# Altium schematic symbol library switch-raychem.SCHLIB: 4 symbols
Pins are listed as number, name and electrical type; pins without a type are passive.

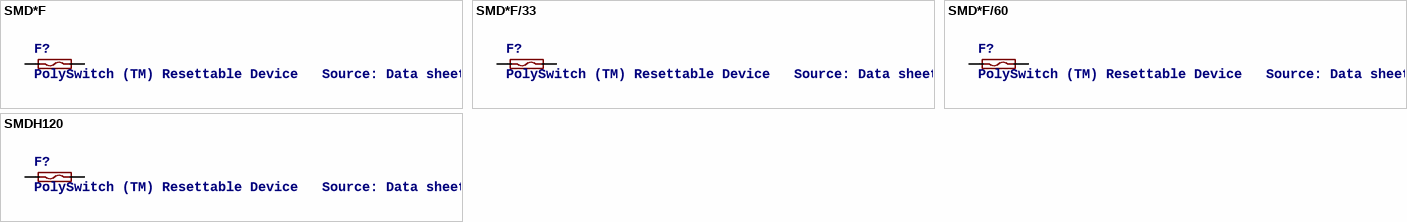
[diagram p0: symbols SMD*F to SMDH120]

## SMD*F
designator F?, comment PolySwitch (TM) Resettable Device   Source: Data sheet
footprint SMD050F
pins: 1, 2

## SMD*F/33
designator F?, comment PolySwitch (TM) Resettable Device   Source: Data sheet
footprint SMD050F
pins: 1, 2

## SMD*F/60
designator F?, comment PolySwitch (TM) Resettable Device   Source: Data sheet
footprint SMD050F
pins: 1, 2

## SMDH120
designator F?, comment PolySwitch (TM) Resettable Device   Source: Data sheet
footprint SMD050F
pins: 1, 2